# Altium footprint library 9000-BKA.PcbLib: 1 footprints
Each footprint in its own frame and in the unit in brackets; x right, y up, seen from the top. Pads: shape width x height; smd on the part's side, far side on the other; paste and mask are expansions set on the pad; w line width, h text height; cw(c..) or ccw(c..) is an arc to the next point about the centre after c.
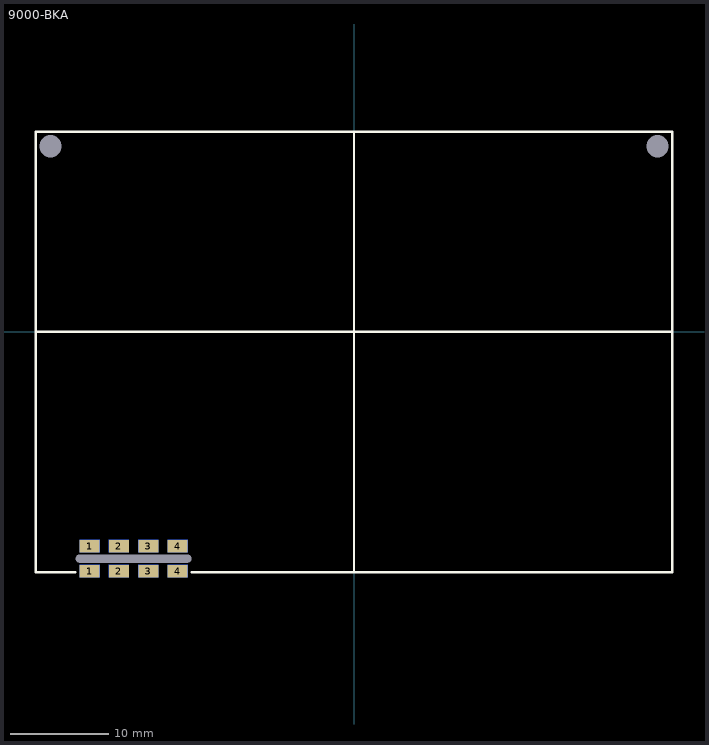
[diagram p0: the footprint, top view; thin cyan lines are the x and y axes]

## 9000-BKA [mil]
pads (19):
  rect 80x50 smd far side: 1(-1063.39,-962.32) 1(-1063.39,-862.32) 2(-945.28,-962.32) 2(-945.28,-862.32) 3(-827.17,-962.32) 3(-827.17,-862.32) 4(-709.06,-962.32) 4(-709.06,-862.32)
  rect 80x50 smd: 1(-1063.39,-962.32) 1(-1063.39,-862.32) 2(-945.28,-962.32) 2(-945.28,-862.32) 3(-827.17,-962.32) 3(-827.17,-862.32) 4(-709.06,-962.32) 4(-709.06,-862.32)
  round 0 hole 90 unplated: MH(-1220.47,745.94) MH(1220.47,745.94)
  round 0 hole 32 slot 465 at 0 deg unplated: MH(-886.22,-912.32)
Top Overlay:
  lines w10: -1279.53,0 1279.53,0 ; -1121.93,-966.65 -1279.53,-966.65 -1279.53,805 1279.53,805 1279.53,-966.65 -652.13,-966.65 ; 0,-966.65 0,805
3D body: height 247.94, standoff -83.95, extent -1281.22,-1452.32 1281.77,811.85